# Altium footprint library zenerstm.PcbLib: 1 footprints
Each footprint in its own frame and in the unit in brackets; x right, y up, seen from the top. Pads: shape width x height; smd on the part's side, far side on the other; paste and mask are expansions set on the pad; w line width, h text height; cw(c..) or ccw(c..) is an arc to the next point about the centre after c.
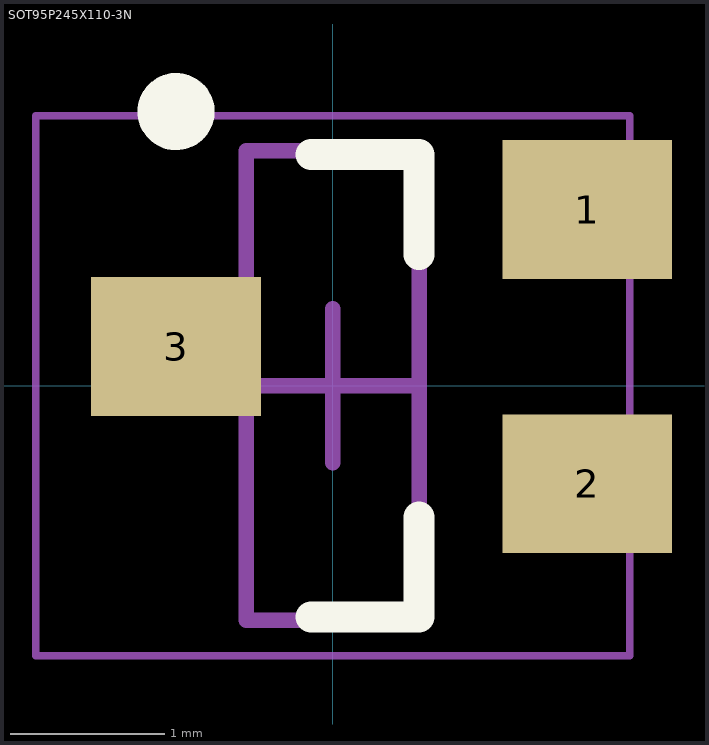
[diagram p0: the footprint, top view; thin cyan lines are the x and y axes]

## SOT95P245X110-3N [mm] "SOT23, 3-Leads, Body 2.92x2.45mm, Pitch 0.95mm, IPC Medium Density"
height 1.1
pads (3):
  rect 1.1x0.9 smd: 1(1.651,1.143) 2(1.651,-0.635) 3(-1.016,0.254)
Top Overlay:
  circle w0.25: c-1.016,1.778 r0.125
  lines w0.2: -0.14,-1.5 0.56,-1.5 0.56,-0.85 ; -0.14,1.5 0.56,1.5 0.56,0.85
Mechanical 13:
  lines w0.1: -0.56,-1.52 -0.56,1.524 0.56,1.524 0.56,-1.52 -0.56,-1.52
Mechanical 15:
  lines w0.05: -1.925,-1.75 -1.925,1.75 1.925,1.75 1.925,-1.75 -1.925,-1.75
  lines w0.1: -0.5,0 0.5,0 ; 0,-0.5 0,0.5
3D body: height 1.1, standoff 0.1, extent -0.179,-1.397 0.941,1.643
3D body "2SD0601A.stp": height 1.1, standoff -0.08, extent -1.016,-1.249 1.743,1.651